# Altium footprint library Components - 24.04.20 - 01.06.PcbLib: 1 footprints
Each footprint in its own frame and in the unit in brackets; x right, y up, seen from the top. Pads: shape width x height; smd on the part's side, far side on the other; paste and mask are expansions set on the pad; w line width, h text height; cw(c..) or ccw(c..) is an arc to the next point about the centre after c.
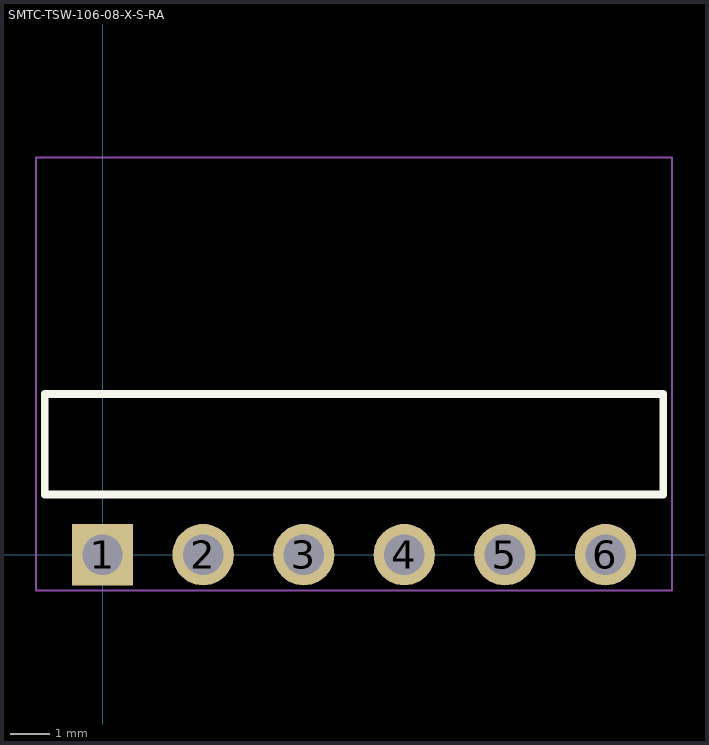
[diagram p0: the footprint, top view; thin cyan lines are the x and y axes]

## SMTC-TSW-106-08-X-S-RA [mm] ".025 SQ Post Terminal Strip Assembly, 1x6 Pins, Right Angle, 2.54mm Pitch, Male"
height 3.02
pads (6):
  rect 1.55x1.55 hole 1.02: 1(0,0)
  round 1.55 hole 1.02: 2(2.54,0) 3(5.08,0) 4(7.62,0) 5(10.16,0) 6(12.7,0)
Top Overlay:
  lines w0.2: -1.46,1.52 -1.46,4.06 14.16,4.06 14.16,1.52 -1.46,1.52
Mechanical 13:
  lines w0.1: -1.46,1.52 -1.46,4.06 14.16,4.06 14.16,1.52 -1.46,1.52
Mechanical 15:
  lines w0.05: -1.685,-0.9 -1.685,10.025 14.385,10.025 14.385,-0.9 -1.685,-0.9
3D body "TSW-106-08-X-S-RA.step": height 3.05, standoff -2.29, extent -1.27,-0.323 13.97,9.9